# Altium footprint library DIP-R  0607.PCBLib: 42 footprints (part 1 of 3)
Each footprint in its own frame and in the unit in brackets; x right, y up, seen from the top. Pads: shape width x height; smd on the part's side, far side on the other; paste and mask are expansions set on the pad; w line width, h text height; cw(c..) or ccw(c..) is an arc to the next point about the centre after c.
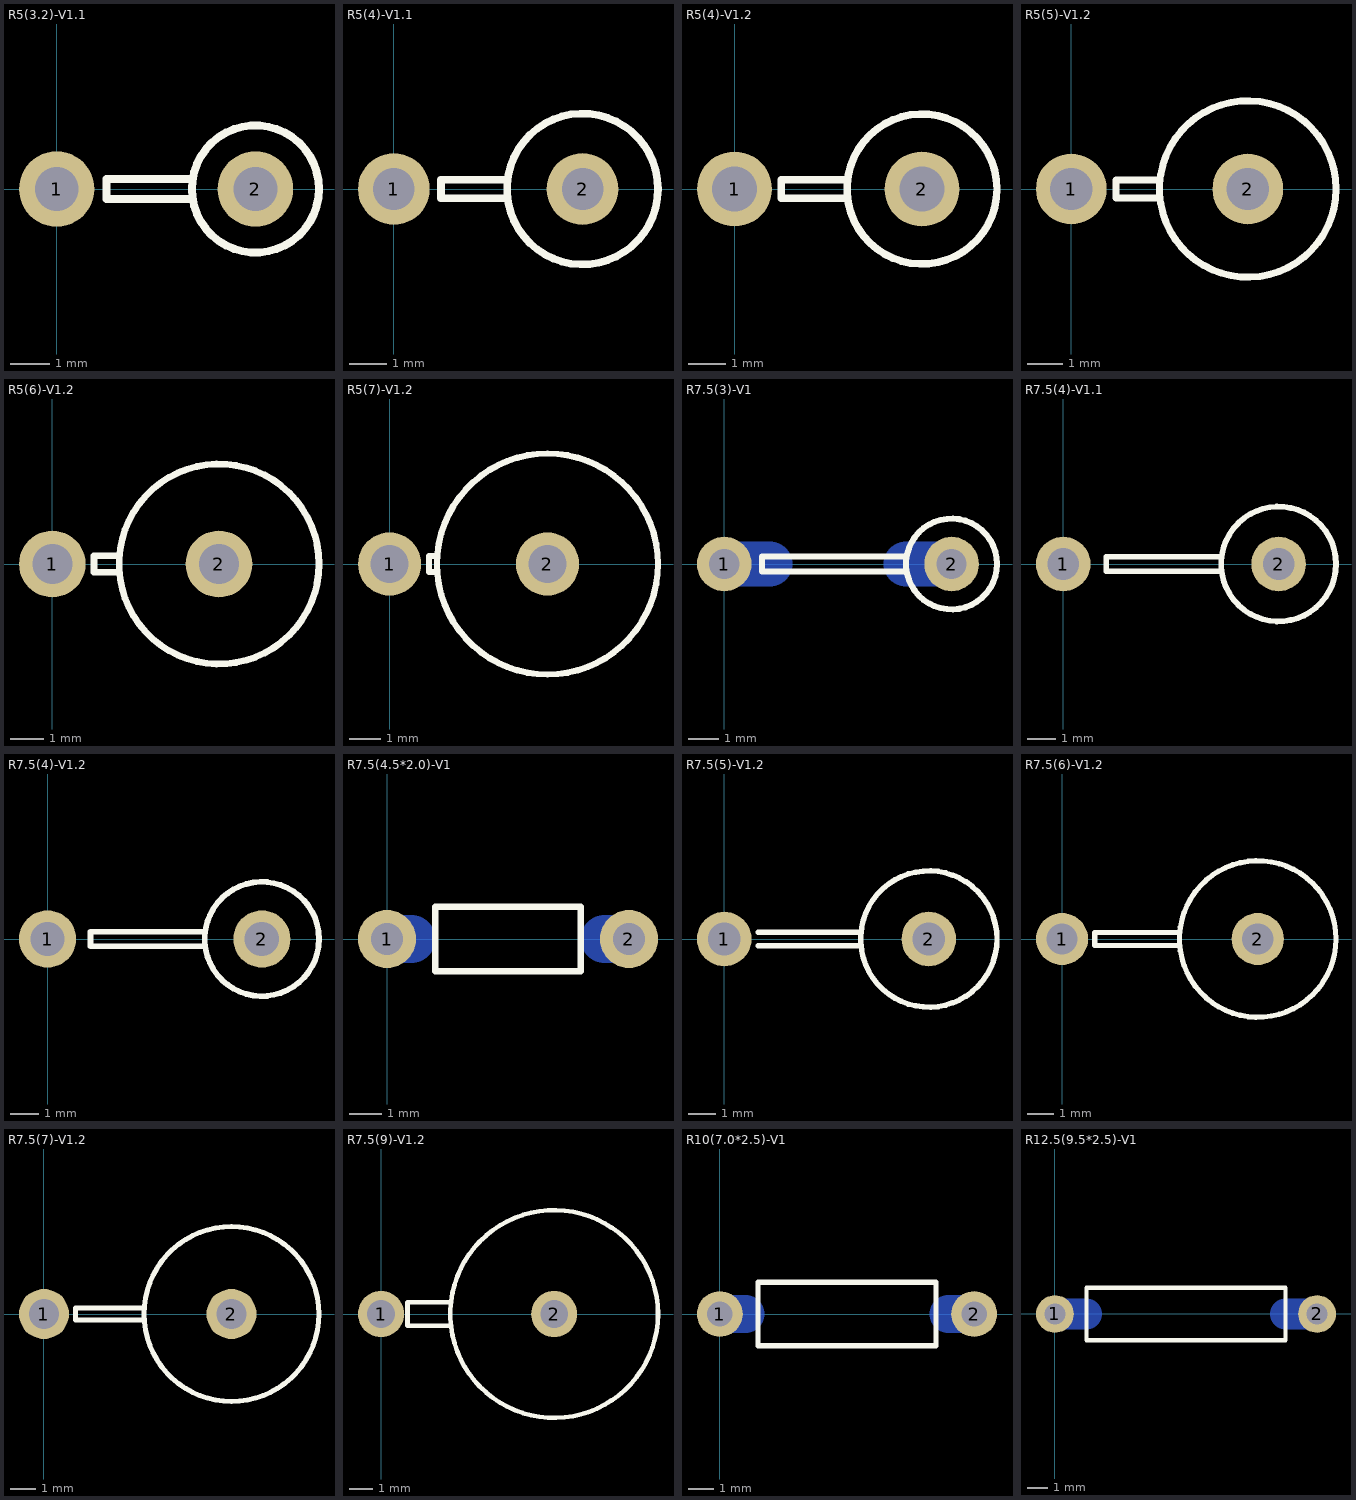
[diagram p0: the footprints below, top view; thin cyan lines are the x and y axes]

## R5(3.2)-V1.1 [mm]
height 18
pads (2):
  round 1.9 hole 1.1: 1(0,0) 2(5,0)
Top Overlay:
  circle w0.2: c5,0 r1.6
  lines w0.2: 3.4,-0.25 1.25,-0.25 1.25,0.25 3.4,0.25

## R5(4)-V1.1 [mm]
height 27
pads (2):
  round 1.9 hole 1.1: 1(0,0) 2(5,0)
Top Overlay:
  circle w0.2: c5,0 r2
  lines w0.2: 3,-0.25 1.25,-0.25 1.25,0.25 3,0.25

## R5(4)-V1.2 [mm]
height 32
pads (2):
  round 2 hole 1.2: 1(0,0) 2(5,0)
Top Overlay:
  circle w0.2: c5,0 r2
  lines w0.2: 3,-0.25 1.25,-0.25 1.25,0.25 3,0.25

## R5(5)-V1.2 [mm]
height 32
pads (2):
  round 2 hole 1.2: 1(0,0) 2(5,0)
Top Overlay:
  circle w0.2: c5,0 r2.5
  lines w0.2: 2.496,-0.254 1.266,-0.254 1.266,0.254 2.496,0.254

## R5(6)-V1.2 [mm]
height 39
pads (2):
  round 2 hole 1.2: 1(0,0) 2(5,0)
Top Overlay:
  circle w0.2: c5,0 r3
  lines w0.2: 2,-0.25 1.25,-0.25 1.25,0.25 2,0.25

## R5(7)-V1.2 [mm]
pads (2):
  round 2 hole 1.2: 1(0,0) 2(5,0)
Top Overlay:
  circle w0.2: c5,0 r3.5
  lines w0.2: 1.397,-0.254 1.25,-0.25 1.25,0.25 1.397,0.254

## R7.5(3)-V1 [mm]
height 5.7
pads (2):
  round 1.8 hole 1: 1(0,0) 2(7.5,0)
Bottom Layer:
  lines w1.5: 0,0 1.5,0 ; 6,0 7.5,0
Top Overlay:
  circle w0.2: c7.5,0 r1.5
  lines w0.2: 1.25,-0.25 6,-0.25 6,0.25 1.25,0.25 1.25,-0.25
Bottom Solder:
  lines w1: 0,0 1.5,0 ; 6,0 7.5,0

## R7.5(4)-V1.1 [mm]
height 27
pads (2):
  round 1.9 hole 1.1: 1(0,0) 2(7.5,0)
Top Overlay:
  circle w0.2: c7.5,0 r2
  lines w0.2: 5.5,-0.25 1.5,-0.25 1.5,0.25 5.5,0.25

## R7.5(4)-V1.2 [mm]
height 27
pads (2):
  round 2 hole 1.2: 1(0,0) 2(7.5,0)
Top Overlay:
  circle w0.2: c7.5,0 r2
  lines w0.2: 5.5,-0.25 1.5,-0.25 1.5,0.25 5.5,0.25

## R7.5(4.5*2.0)-V1 [mm]
height 2
pads (2):
  round 1.8 hole 1: 1(0,0) 2(7.5,0)
Bottom Layer:
  lines w1.5: 0,0 0.75,0 ; 6.75,0 7.5,0
Top Overlay:
  lines w0.2: 1.5,-1 1.5,1 6,1 6,-1 1.5,-1
Bottom Solder:
  lines w1: 0,0 0.75,0 ; 6.75,0 7.5,0

## R7.5(5)-V1.2 [mm]
height 32
pads (2):
  round 2 hole 1.2: 1(0,0) 2(7.5,0)
Top Overlay:
  circle w0.2: c7.5,0 r2.5
  lines w0.2: 1.25,-0.25 5,-0.25 ; 1.25,0.25 5,0.25

## R7.5(6)-V1.2 [mm]
height 39
pads (2):
  round 2 hole 1.2: 1(0,0) 2(7.5,0)
Top Overlay:
  circle w0.2: c7.5,0 r3
  lines w0.2: 4.5,-0.25 1.25,-0.25 1.25,0.25 4.5,0.25

## R7.5(7)-V1.2 [mm]
pads (2):
  round 2 hole 1.2: 1(0,0) 2(7.5,0)
Top Overlay:
  circle w0.2: c7.5,0 r3.5
  lines w0.2: 4,-0.25 1.25,-0.25 1.25,0.25 4,0.25

## R7.5(9)-V1.2 [mm]
pads (2):
  round 2 hole 1.2: 1(0,0) 2(7.5,0)
Top Overlay:
  circle w0.2: c7.5,0 r4.5
  lines w0.2: 3,-0.5 1.143,-0.508 1.143,0.508 3,0.5

## R10(7.0*2.5)-V1 [mm]
height 2.5
pads (2):
  round 1.8 hole 1: 1(0,0) 2(10,0)
Bottom Layer:
  lines w1.5: 0,0 1,0 ; 9,0 10,0
Top Overlay:
  lines w0.2: 1.5,-1.25 1.5,1.25 8.5,1.25 8.5,-1.25 1.5,-1.25
Bottom Solder:
  lines w1: 0,0 1,0 ; 9,0 10,0

## R12.5(9.5*2.5)-V1 [mm]
height 2.5
pads (2):
  round 1.8 hole 1: 1(0,0) 2(12.5,0)
Bottom Layer:
  lines w1.5: 0,0 1.5,0 ; 11,0 12.5,0
Top Overlay:
  lines w0.2: 1.5,-1.25 1.5,1.25 11,1.25 11,-1.25 1.5,-1.25
Bottom Solder:
  lines w1: 0,0 1.5,0 ; 11,0 12.5,0